# EAGLE library part LSM330 (library stmicroelectronics)
IMUs - Inertial Measurement Units iNEMO 3D Module 3D Accelerometer
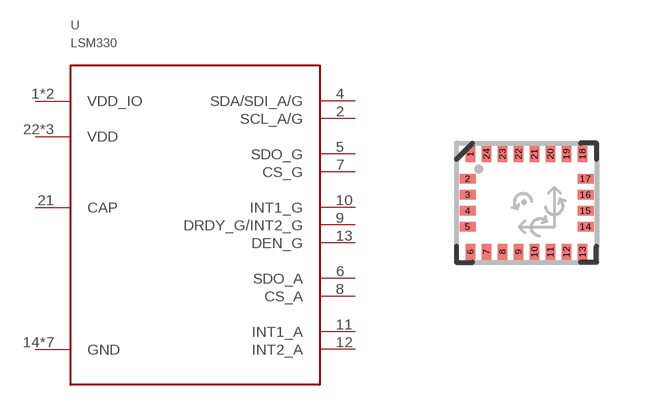
[diagram p0: symbol with the pads of LGA-24-3.5X3.0; footprint LGA-24-3.5X3.0]

Designator prefix -

## LSM330  [LGA-24-3.5X3.0]
1  VDD_IO  sup
2  SCL_A/G
3  VDD_IO  sup
4  SDA/SDI_A/G
5  SDO_G
6  SDO_A
7  CS_G
8  CS_A
9  DRDY_G/INT2_G
10  INT1_G
11  INT1_A
12  INT2_A
13  DEN_G
14  GND  sup
15  GND  sup
16  GND  sup
17  GND  sup
18  GND  sup
19  GND  sup
20  GND  sup
21  CAP  pas
22  VDD  sup
23  VDD  sup
24  VDD  sup

## Footprint LGA-24-3.5X3.0 (pad centres in mm)
smd 0.24 x 0.4: 1 -1.4,1.225; 6 -1.4,-1.225; 7 -1,-1.225; 8 -0.6,-1.225; 9 -0.2,-1.225; 10 0.2,-1.225; 11 0.6,-1.225; 12 1,-1.225; 13 1.4,-1.225; 18 1.4,1.225; 19 1,1.225; 20 0.6,1.225; 21 0.2,1.225; 22 -0.2,1.225; 23 -0.6,1.225; 24 -1,1.225
smd 0.4 x 0.24: 2 -1.475,0.6; 3 -1.475,0.2; 4 -1.475,-0.2; 5 -1.475,-0.6; 14 1.475,-0.6; 15 1.475,-0.2; 16 1.475,0.2; 17 1.475,0.6